# EAGLE library part TPS43000PW (library wheat)
IC, SW REG CONTROLLER, TPS43000, TSSOP16
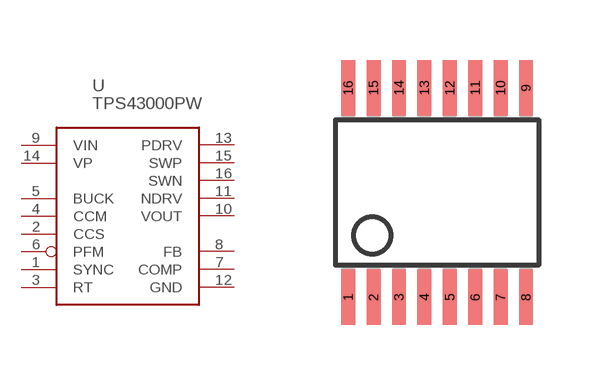
[diagram p68: symbol with the pads of TSSOP16; footprint TSSOP16]

Designator prefix U

## TPS43000PW  [TSSOP16]
1  SYNC  in
2  CCS  in
3  RT  in
4  CCM  in
5  BUCK  in
6  PFM  in
7  COMP  out
8  FB  out
9  VIN  pwr
10  VOUT  in
11  NDRV  out
12  GND  pwr
13  PDRV  out
14  VP  pwr
15  SWP  out
16  SWN  out

## Footprint TSSOP16 (pad centres in mm)
TSSOP16 0.65 pitch
smd 0.348 x 1.397: 1 -2.223,-2.619; 2 -1.588,-2.62; 3 -0.953,-2.62; 4 -0.318,-2.62; 5 0.318,-2.62; 6 0.953,-2.62; 7 1.588,-2.62; 8 2.223,-2.62; 9 2.223,2.62; 10 1.588,2.62; 11 0.953,2.62; 12 0.318,2.62; 13 -0.318,2.62; 14 -0.953,2.62; 15 -1.588,2.62; 16 -2.223,2.62